# Altium schematic symbol library RES.SchLib: 1 symbol
Pins are listed as number, name and electrical type; pins without a type are passive.

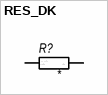
[diagram p0: symbol RES_DK]

## RES_DK
designator R?  Package: 0402  PartNumber: RC0402  Tolerance: 5%
Manufacturer: *manuf; ValueManufacturerPartNumber: RC0402 *manuf; CategorySub: Chip Resistor; Category: RES; Zone: =ZoneName; Value: *
pins: 1, 2